# Altium footprint library PushButtonSwitch_CnK_1.14002.1110000.PcbLib: 1 footprints
Each footprint in its own frame and in the unit in brackets; x right, y up, seen from the top. Pads: shape width x height; smd on the part's side, far side on the other; paste and mask are expansions set on the pad; w line width, h text height; cw(c..) or ccw(c..) is an arc to the next point about the centre after c.
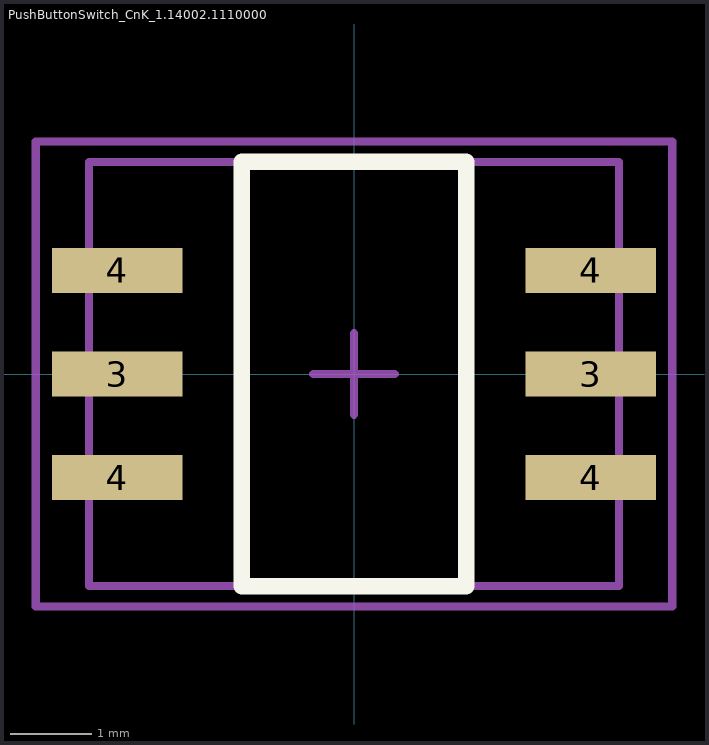
[diagram p0: the footprint, top view; thin cyan lines are the x and y axes]

## PushButtonSwitch_CnK_1.14002.1110000 [mm]
height 3.95
pads (6):
  rect 1.6x0.55 smd: 3(-2.9,0) 3(2.9,0) 4(-2.9,-1.27) 4(-2.9,1.27) 4(2.9,-1.27) 4(2.9,1.27)
Top Overlay:
  lines w0.2: -1.375,-2.6 -1.375,2.6 1.375,2.6 1.375,-2.6 -1.375,-2.6
Mechanical 13:
  lines w0.1: -3.25,-2.6 -3.25,2.6 3.25,2.6 3.25,-2.6 -3.25,-2.6
Mechanical 15:
  lines w0.1: -0.5,0 0.5,0 ; 0,-0.5 0,0.5 ; -3.9,-2.85 -3.9,2.85 3.9,2.85 3.9,-2.85 -3.9,-2.85
3D body: height 3.95, standoff 0, extent -3.25,-2.6 3.25,2.6